# EAGLE library part TSL2561T (library TSL2561T)
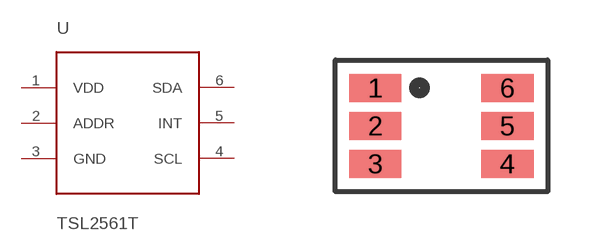
[diagram p0: symbol with the pads of TMB-6; footprint TMB-6]

Designator prefix -

## TSL2561T  [TMB-6]
1  VDD
2  ADDR
3  GND
4  SCL
5  INT
6  SDA

## Footprint TMB-6 (pad centres in mm)
smd 1.3 x 0.7: 1 -1.6,0.9; 2 -1.6,-0.05; 3 -1.6,-1; 4 1.7,-1; 5 1.7,-0.05; 6 1.7,0.9